# EAGLE library part DECADE-DS3231 (library DECADE-libraries20151104)
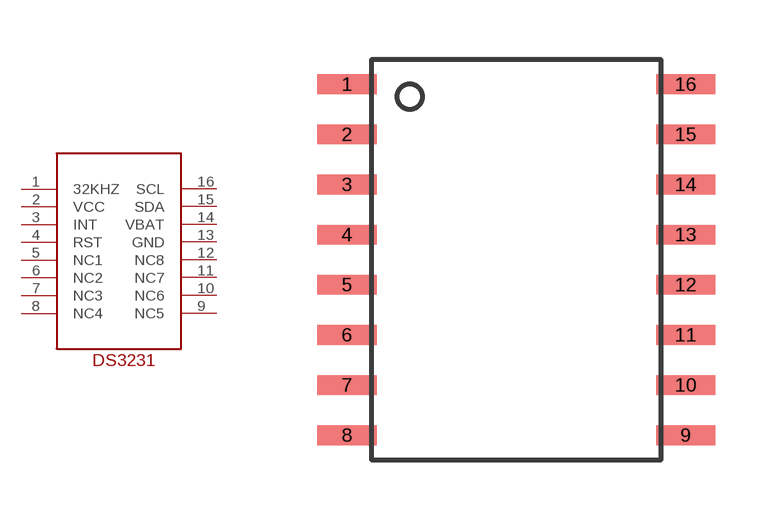
[diagram p25: symbol with the pads of DECADE-SOIC16-W; footprint DECADE-SOIC16-W]

Designator prefix -

## DECADE-DS3231  [DECADE-SOIC16-W]
1  32KHZ
2  VCC
3  INT
4  RST
5  NC1
6  NC2
7  NC3
8  NC4
9  NC5
10  NC6
11  NC7
12  NC8
13  GND
14  VBAT
15  SDA
16  SCL

## Footprint DECADE-SOIC16-W (pad centres in mm)
smd 1.5 x 0.5: 1 -0.635,0; 2 -0.635,-1.27; 3 -0.635,-2.54; 4 -0.635,-3.81; 5 -0.635,-5.08; 6 -0.635,-6.35; 7 -0.635,-7.62; 8 -0.635,-8.89; 9 7.938,-8.89; 10 7.938,-7.62; 11 7.938,-6.35; 12 7.938,-5.08; 13 7.938,-3.81; 14 7.938,-2.54; 15 7.938,-1.27; 16 7.938,0